# Altium schematic symbol library LDO.SchLib: 1 symbol
Pins are listed as number, name and electrical type; pins without a type are passive.

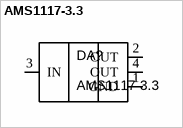
[diagram p0: symbol AMS1117-3.3]

## AMS1117-3.3
designator DA?
footprint SOT229P700X180-4N
pins: 1 GND, 2 OUT, 3 IN, 4 OUT